# Altium schematic symbol library kmilo17pet-AD_Isolators.SchLib: 645 symbols (part 2 of 36)
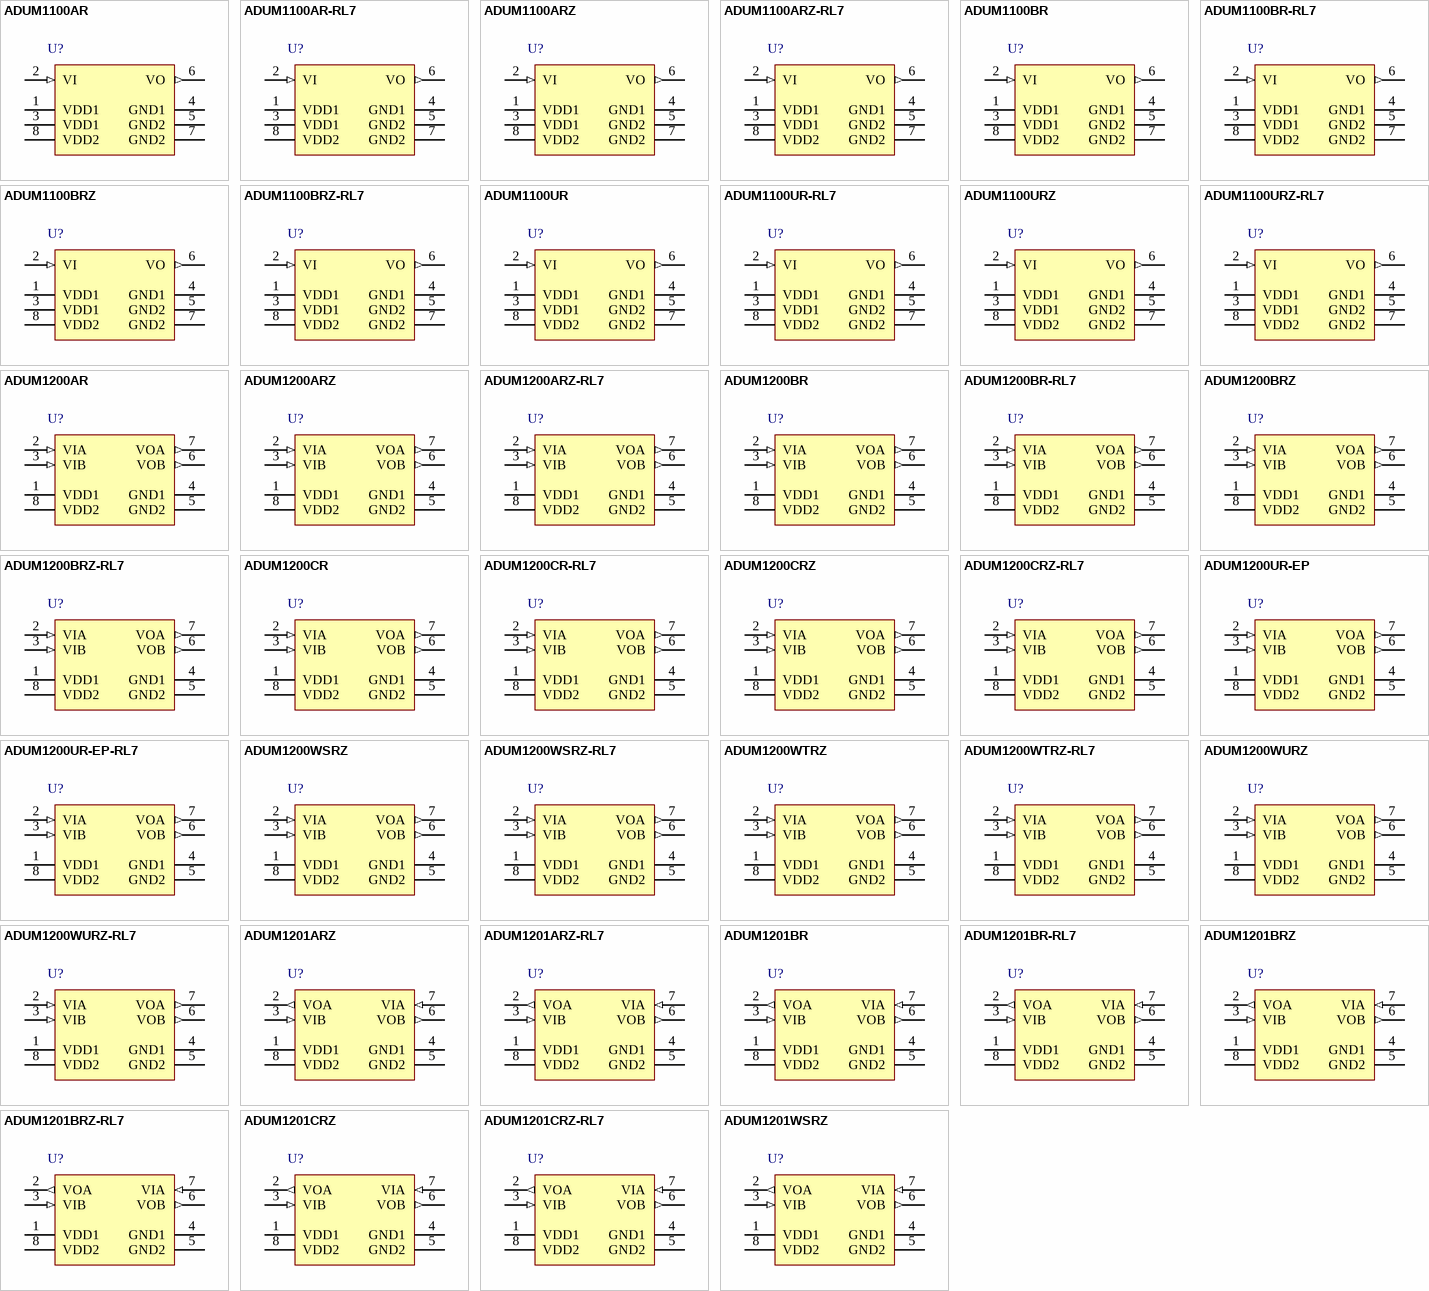
[diagram p21: symbols ADUM1100AR to ADUM1201WSRZ]

## ADUM1200WSRZ-RL7
designator U?
Dual Channel Digital Isolator, 2.5 KV rms Insulation Rating, 1 Mbps Data Rate, 150 ns Delay, Automotive, 8-pin SOIC (R-8), Reel; Manufacturer: Analog Devices; PartNumber: ADUM1200WSRZ-RL7; Automotive Qualified: Yes; Insulation Rating (kVrms): 2.5; Max Data Rate: 1Mbps; DatasheetVersion: Rev. I; PackageVersion: 060506-A, 06/2006; PackageReference: R-8; PackageDescription: 8-Pin Standard Small Outline Package, Body 4.9 x 3.9 mm, Pitch 1.27 mm; Supplier 1: Digi-Key; Supplier Part Number 1: ADUM1200WSRZ-RL7-ND; Max Operating Temp (degreesC): 125; Mounting Technology: Surface Mount; Code_JEDEC: MS-012-AA; ComponentLink1Description: Manufacturer URL; ComponentLink1URL: http://www.analog.com/en/index.html; ComponentLink2Description: Datasheet; ComponentLink2URL: http://www.analog.com/static/imported-files/data_sheets/ADuM1200_1201.pdf; ComponentLink3Description: Package Specification; ComponentLink3URL: http://www.analog.com/static/imported-files/packages/PKG_PDF/SOIC_Narrow%20(R)/R_8.pdf; ComponentLink4Description: URL Link1; ComponentLink4URL: Product URL:http://www.analog.com/en/interface-isolation/digital-isolators/adum1200/products/product.html
footprint ADI-R-8_N (SOIC, 8-Leads, Body 4.9x3.9mm, Pitch 1.27mm, IPC Medium Density)
footprint ADI-R-8_L (SOIC, 8-Leads, Body 4.9x3.9mm, Pitch 1.27mm, IPC High Density)
footprint ADI-R-8_M (SOIC, 8-Leads, Body 4.9x3.9mm, Pitch 1.27mm, IPC Low Density)
pins: 1 VDD1 (power) "Supply Voltage for Isolator Side 1.", 2 VIA (in) "Logic Input A.", 3 VIB (in) "Logic Input B.", 4 GND1 (power) "Ground 1. Ground Reference for Isolator Side 1.", 5 GND2 (power) "Ground 2. Ground Reference for Isolator Side 2.", 6 VOB (out) "Logic Output B.", 7 VOA (out) "Logic Output A.", 8 VDD2 (power) "Supply Voltage for Isolator Side 2."

## ADUM1200WTRZ
designator U?
Dual Channel Digital Isolator, 2.5 KV rms Insulation Rating, 10 Mbps Data Rate, 50 ns Delay, Automotive, 8-pin SOIC (R-8), Tube; Manufacturer: Analog Devices; PartNumber: ADUM1200WTRZ; Automotive Qualified: Yes; Insulation Rating (kVrms): 2.5; Max Data Rate: 10Mbps; DatasheetVersion: Rev. I; PackageVersion: 060506-A, 06/2006; PackageReference: R-8; PackageDescription: 8-Pin Standard Small Outline Package, Body 4.9 x 3.9 mm, Pitch 1.27 mm; Supplier 1: Mouser; Supplier Part Number 1: N/A; Max Operating Temp (degreesC): 125; Mounting Technology: Surface Mount; Code_JEDEC: MS-012-AA; ComponentLink1Description: Manufacturer URL; ComponentLink1URL: http://www.analog.com/en/index.html; ComponentLink2Description: Datasheet; ComponentLink2URL: http://www.analog.com/static/imported-files/data_sheets/ADuM1200_1201.pdf; ComponentLink3Description: Package Specification; ComponentLink3URL: http://www.analog.com/static/imported-files/packages/PKG_PDF/SOIC_Narrow%20(R)/R_8.pdf; ComponentLink4Description: URL Link1; ComponentLink4URL: Product URL:http://www.analog.com/en/interface-isolation/digital-isolators/adum1200/products/product.html
footprint ADI-R-8_N (SOIC, 8-Leads, Body 4.9x3.9mm, Pitch 1.27mm, IPC Medium Density)
footprint ADI-R-8_L (SOIC, 8-Leads, Body 4.9x3.9mm, Pitch 1.27mm, IPC High Density)
footprint ADI-R-8_M (SOIC, 8-Leads, Body 4.9x3.9mm, Pitch 1.27mm, IPC Low Density)
pins: 1 VDD1 (power) "Supply Voltage for Isolator Side 1.", 2 VIA (in) "Logic Input A.", 3 VIB (in) "Logic Input B.", 4 GND1 (power) "Ground 1. Ground Reference for Isolator Side 1.", 5 GND2 (power) "Ground 2. Ground Reference for Isolator Side 2.", 6 VOB (out) "Logic Output B.", 7 VOA (out) "Logic Output A.", 8 VDD2 (power) "Supply Voltage for Isolator Side 2."

## ADUM1200WTRZ-RL7
designator U?
Dual Channel Digital Isolator, 2.5 KV rms Insulation Rating, 10 Mbps Data Rate, 50 ns Delay, Automotive, 8-pin SOIC (R-8), Reel; Manufacturer: Analog Devices; PartNumber: ADUM1200WTRZ-RL7; Automotive Qualified: Yes; Insulation Rating (kVrms): 2.5; Max Data Rate: 10Mbps; DatasheetVersion: Rev. I; PackageVersion: 060506-A, 06/2006; PackageReference: R-8; PackageDescription: 8-Pin Standard Small Outline Package, Body 4.9 x 3.9 mm, Pitch 1.27 mm; Supplier 1: Digi-Key; Supplier Part Number 1: ADUM1200WTRZ-RL7-ND; Max Operating Temp (degreesC): 125; Mounting Technology: Surface Mount; Code_JEDEC: MS-012-AA; ComponentLink1Description: Manufacturer URL; ComponentLink1URL: http://www.analog.com/en/index.html; ComponentLink2Description: Datasheet; ComponentLink2URL: http://www.analog.com/static/imported-files/data_sheets/ADuM1200_1201.pdf; ComponentLink3Description: Package Specification; ComponentLink3URL: http://www.analog.com/static/imported-files/packages/PKG_PDF/SOIC_Narrow%20(R)/R_8.pdf; ComponentLink4Description: URL Link1; ComponentLink4URL: Product URL:http://www.analog.com/en/interface-isolation/digital-isolators/adum1200/products/product.html
footprint ADI-R-8_N (SOIC, 8-Leads, Body 4.9x3.9mm, Pitch 1.27mm, IPC Medium Density)
footprint ADI-R-8_L (SOIC, 8-Leads, Body 4.9x3.9mm, Pitch 1.27mm, IPC High Density)
footprint ADI-R-8_M (SOIC, 8-Leads, Body 4.9x3.9mm, Pitch 1.27mm, IPC Low Density)
pins: 1 VDD1 (power) "Supply Voltage for Isolator Side 1.", 2 VIA (in) "Logic Input A.", 3 VIB (in) "Logic Input B.", 4 GND1 (power) "Ground 1. Ground Reference for Isolator Side 1.", 5 GND2 (power) "Ground 2. Ground Reference for Isolator Side 2.", 6 VOB (out) "Logic Output B.", 7 VOA (out) "Logic Output A.", 8 VDD2 (power) "Supply Voltage for Isolator Side 2."

## ADUM1200WURZ
designator U?
Dual Channel Digital Isolator, 2.5 KV rms Insulation Rating, 25 Mbps Data Rate, 45 ns Delay, Automotive, 8-pin SOIC (R-8), Tube; Manufacturer: Analog Devices; PartNumber: ADUM1200WURZ; Automotive Qualified: Yes; Insulation Rating (kVrms): 2.5; Max Data Rate: 25Mbps; DatasheetVersion: Rev. I; PackageVersion: 060506-A, 06/2006; PackageReference: R-8; PackageDescription: 8-Pin Standard Small Outline Package, Body 4.9 x 3.9 mm, Pitch 1.27 mm; Supplier 1: Digi-Key; Supplier Part Number 1: ADUM1200WURZ-ND; Max Operating Temp (degreesC): 125; Mounting Technology: Surface Mount; Code_JEDEC: MS-012-AA; ComponentLink1Description: Manufacturer URL; ComponentLink1URL: http://www.analog.com/en/index.html; ComponentLink2Description: Datasheet; ComponentLink2URL: http://www.analog.com/static/imported-files/data_sheets/ADuM1200_1201.pdf; ComponentLink3Description: Package Specification; ComponentLink3URL: http://www.analog.com/static/imported-files/packages/PKG_PDF/SOIC_Narrow%20(R)/R_8.pdf; ComponentLink4Description: URL Link1; ComponentLink4URL: Product URL:http://www.analog.com/en/interface-isolation/digital-isolators/adum1200/products/product.html
footprint ADI-R-8_N (SOIC, 8-Leads, Body 4.9x3.9mm, Pitch 1.27mm, IPC Medium Density)
footprint ADI-R-8_L (SOIC, 8-Leads, Body 4.9x3.9mm, Pitch 1.27mm, IPC High Density)
footprint ADI-R-8_M (SOIC, 8-Leads, Body 4.9x3.9mm, Pitch 1.27mm, IPC Low Density)
pins: 1 VDD1 (power) "Supply Voltage for Isolator Side 1.", 2 VIA (in) "Logic Input A.", 3 VIB (in) "Logic Input B.", 4 GND1 (power) "Ground 1. Ground Reference for Isolator Side 1.", 5 GND2 (power) "Ground 2. Ground Reference for Isolator Side 2.", 6 VOB (out) "Logic Output B.", 7 VOA (out) "Logic Output A.", 8 VDD2 (power) "Supply Voltage for Isolator Side 2."

## ADUM1200WURZ-RL7
designator U?
Dual Channel Digital Isolator, 2.5 KV rms Insulation Rating, 25 Mbps Data Rate, 45 ns Delay, Automotive, 8-pin SOIC (R-8), Reel; Manufacturer: Analog Devices; PartNumber: ADUM1200WURZ-RL7; Automotive Qualified: Yes; Insulation Rating (kVrms): 2.5; Max Data Rate: 25Mbps; DatasheetVersion: Rev. I; PackageVersion: 060506-A, 06/2006; PackageReference: R-8; PackageDescription: 8-Pin Standard Small Outline Package, Body 4.9 x 3.9 mm, Pitch 1.27 mm; Supplier 1: Digi-Key; Supplier Part Number 1: ADUM1200WURZ-RL7-ND; Max Operating Temp (degreesC): 125; Mounting Technology: Surface Mount; Code_JEDEC: MS-012-AA; ComponentLink1Description: Manufacturer URL; ComponentLink1URL: http://www.analog.com/en/index.html; ComponentLink2Description: Datasheet; ComponentLink2URL: http://www.analog.com/static/imported-files/data_sheets/ADuM1200_1201.pdf; ComponentLink3Description: Package Specification; ComponentLink3URL: http://www.analog.com/static/imported-files/packages/PKG_PDF/SOIC_Narrow%20(R)/R_8.pdf; ComponentLink4Description: URL Link1; ComponentLink4URL: Product URL:http://www.analog.com/en/interface-isolation/digital-isolators/adum1200/products/product.html
footprint ADI-R-8_N (SOIC, 8-Leads, Body 4.9x3.9mm, Pitch 1.27mm, IPC Medium Density)
footprint ADI-R-8_L (SOIC, 8-Leads, Body 4.9x3.9mm, Pitch 1.27mm, IPC High Density)
footprint ADI-R-8_M (SOIC, 8-Leads, Body 4.9x3.9mm, Pitch 1.27mm, IPC Low Density)
pins: 1 VDD1 (power) "Supply Voltage for Isolator Side 1.", 2 VIA (in) "Logic Input A.", 3 VIB (in) "Logic Input B.", 4 GND1 (power) "Ground 1. Ground Reference for Isolator Side 1.", 5 GND2 (power) "Ground 2. Ground Reference for Isolator Side 2.", 6 VOB (out) "Logic Output B.", 7 VOA (out) "Logic Output A.", 8 VDD2 (power) "Supply Voltage for Isolator Side 2."

## ADUM1201ARZ
designator U?
Dual Channel Digital Isolator, 2.5 KV rms Insulation Rating, 1 Mbps Data Rate, 150 ns Delay, Industrial, 8-pin SOIC (R-8), Tube; Manufacturer: Analog Devices; PartNumber: ADUM1201ARZ; Insulation Rating (kVrms): 2.5; Max Data Rate: 1Mbps; DatasheetVersion: Rev. I; PackageVersion: 060506-A, 06/2006; PackageReference: R-8; PackageDescription: 8-Pin Standard Small Outline Package, Body 4.9 x 3.9 mm, Pitch 1.27 mm; Supplier 1: Digi-Key; Supplier Part Number 1: ADUM1201ARZ-ND; Max Operating Temp (degreesC): 125; Mounting Technology: Surface Mount; Code_JEDEC: MS-012-AA; ComponentLink1Description: Manufacturer URL; ComponentLink1URL: http://www.analog.com/en/index.html; ComponentLink2Description: Datasheet; ComponentLink2URL: http://www.analog.com/static/imported-files/data_sheets/ADuM1200_1201.pdf; ComponentLink3Description: Package Specification; ComponentLink3URL: http://www.analog.com/static/imported-files/packages/PKG_PDF/SOIC_Narrow%20(R)/R_8.pdf; ComponentLink4Description: URL Link1; ComponentLink4URL: Product URL:http://www.analog.com/en/interface-isolation/digital-isolators/adum1201/products/product.html; ComponentLink5Description: URL Link2; ComponentLink5URL: Reference Circuit:http://www.analog.com/en/interface-isolation/digital-isolators/adum1201/products/product.html#product-recommendations
footprint ADI-R-8_N (SOIC, 8-Leads, Body 4.9x3.9mm, Pitch 1.27mm, IPC Medium Density)
footprint ADI-R-8_L (SOIC, 8-Leads, Body 4.9x3.9mm, Pitch 1.27mm, IPC High Density)
footprint ADI-R-8_M (SOIC, 8-Leads, Body 4.9x3.9mm, Pitch 1.27mm, IPC Low Density)
pins: 1 VDD1 (power) "Supply Voltage for Isolator Side 1.", 2 VOA (out) "Logic Output A.", 3 VIB (in) "Logic Input B.", 4 GND1 (power) "Ground 1. Ground Reference for Isolator Side 1.", 5 GND2 (power) "Ground 2. Ground Reference for Isolator Side 2.", 6 VOB (out) "Logic Output B.", 7 VIA (in) "Logic Input A.", 8 VDD2 (power) "Supply Voltage for Isolator Side 2."

## ADUM1201ARZ-RL7
designator U?
Dual Channel Digital Isolator, 2.5 KV rms Insulation Rating, 1 Mbps Data Rate, 150 ns Delay, Industrial, 8-pin SOIC (R-8), Reel; Manufacturer: Analog Devices; PartNumber: ADUM1201ARZ-RL7; Insulation Rating (kVrms): 2.5; Max Data Rate: 1Mbps; DatasheetVersion: Rev. I; PackageVersion: 060506-A, 06/2006; PackageReference: R-8; PackageDescription: 8-Pin Standard Small Outline Package, Body 4.9 x 3.9 mm, Pitch 1.27 mm; Supplier 1: Digi-Key; Supplier Part Number 1: ADUM1201ARZ-RL7TR-ND; Max Operating Temp (degreesC): 125; Mounting Technology: Surface Mount; Code_JEDEC: MS-012-AA; ComponentLink1Description: Manufacturer URL; ComponentLink1URL: http://www.analog.com/en/index.html; ComponentLink2Description: Datasheet; ComponentLink2URL: http://www.analog.com/static/imported-files/data_sheets/ADuM1200_1201.pdf; ComponentLink3Description: Package Specification; ComponentLink3URL: http://www.analog.com/static/imported-files/packages/PKG_PDF/SOIC_Narrow%20(R)/R_8.pdf; ComponentLink4Description: URL Link1; ComponentLink4URL: Product URL:http://www.analog.com/en/interface-isolation/digital-isolators/adum1201/products/product.html; ComponentLink5Description: URL Link2; ComponentLink5URL: Reference Circuit:http://www.analog.com/en/interface-isolation/digital-isolators/adum1201/products/product.html#product-recommendations
footprint ADI-R-8_N (SOIC, 8-Leads, Body 4.9x3.9mm, Pitch 1.27mm, IPC Medium Density)
footprint ADI-R-8_L (SOIC, 8-Leads, Body 4.9x3.9mm, Pitch 1.27mm, IPC High Density)
footprint ADI-R-8_M (SOIC, 8-Leads, Body 4.9x3.9mm, Pitch 1.27mm, IPC Low Density)
pins: 1 VDD1 (power) "Supply Voltage for Isolator Side 1.", 2 VOA (out) "Logic Output A.", 3 VIB (in) "Logic Input B.", 4 GND1 (power) "Ground 1. Ground Reference for Isolator Side 1.", 5 GND2 (power) "Ground 2. Ground Reference for Isolator Side 2.", 6 VOB (out) "Logic Output B.", 7 VIA (in) "Logic Input A.", 8 VDD2 (power) "Supply Voltage for Isolator Side 2."

## ADUM1201BR
designator U?
Dual Channel Digital Isolator, 2.5 KV rms Insulation Rating, 10 Mbps Data Rate, 50 ns Delay, Industrial, 8-pin SOIC (R-8), Tube; Manufacturer: Analog Devices; PartNumber: ADUM1201BR; Insulation Rating (kVrms): 2.5; Max Data Rate: 10Mbps; DatasheetVersion: Rev. I; PackageVersion: 060506-A, 06/2006; PackageReference: R-8; PackageDescription: 8-Pin Standard Small Outline Package, Body 4.9 x 3.9 mm, Pitch 1.27 mm; Supplier 1: Digi-Key; Supplier Part Number 1: ADUM1201BR-ND; Max Operating Temp (degreesC): 125; Mounting Technology: Surface Mount; Code_JEDEC: MS-012-AA; ComponentLink1Description: Manufacturer URL; ComponentLink1URL: http://www.analog.com/en/index.html; ComponentLink2Description: Datasheet; ComponentLink2URL: http://www.analog.com/static/imported-files/data_sheets/ADuM1200_1201.pdf; ComponentLink3Description: Package Specification; ComponentLink3URL: http://www.analog.com/static/imported-files/packages/PKG_PDF/SOIC_Narrow%20(R)/R_8.pdf; ComponentLink4Description: URL Link1; ComponentLink4URL: Product URL:http://www.analog.com/en/interface-isolation/digital-isolators/adum1201/products/product.html; ComponentLink5Description: URL Link2; ComponentLink5URL: Reference Circuit:http://www.analog.com/en/interface-isolation/digital-isolators/adum1201/products/product.html#product-recommendations
footprint ADI-R-8_N (SOIC, 8-Leads, Body 4.9x3.9mm, Pitch 1.27mm, IPC Medium Density)
footprint ADI-R-8_L (SOIC, 8-Leads, Body 4.9x3.9mm, Pitch 1.27mm, IPC High Density)
footprint ADI-R-8_M (SOIC, 8-Leads, Body 4.9x3.9mm, Pitch 1.27mm, IPC Low Density)
pins: 1 VDD1 (power) "Supply Voltage for Isolator Side 1.", 2 VOA (out) "Logic Output A.", 3 VIB (in) "Logic Input B.", 4 GND1 (power) "Ground 1. Ground Reference for Isolator Side 1.", 5 GND2 (power) "Ground 2. Ground Reference for Isolator Side 2.", 6 VOB (out) "Logic Output B.", 7 VIA (in) "Logic Input A.", 8 VDD2 (power) "Supply Voltage for Isolator Side 2."

## ADUM1201BR-RL7
designator U?
Dual Channel Digital Isolator, 2.5 KV rms Insulation Rating, 10 Mbps Data Rate, 50 ns Delay, Industrial, 8-pin SOIC (R-8), Reel; Manufacturer: Analog Devices; PartNumber: ADUM1201BR-RL7; Insulation Rating (kVrms): 2.5; Max Data Rate: 10Mbps; DatasheetVersion: Rev. I; PackageVersion: 060506-A, 06/2006; PackageReference: R-8; PackageDescription: 8-Pin Standard Small Outline Package, Body 4.9 x 3.9 mm, Pitch 1.27 mm; Supplier 1: Digi-Key; Supplier Part Number 1: ADUM1201BR-RL7-ND; Max Operating Temp (degreesC): 125; Mounting Technology: Surface Mount; Code_JEDEC: MS-012-AA; ComponentLink1Description: Manufacturer URL; ComponentLink1URL: http://www.analog.com/en/index.html; ComponentLink2Description: Datasheet; ComponentLink2URL: http://www.analog.com/static/imported-files/data_sheets/ADuM1200_1201.pdf; ComponentLink3Description: Package Specification; ComponentLink3URL: http://www.analog.com/static/imported-files/packages/PKG_PDF/SOIC_Narrow%20(R)/R_8.pdf; ComponentLink4Description: URL Link1; ComponentLink4URL: Product URL:http://www.analog.com/en/interface-isolation/digital-isolators/adum1201/products/product.html; ComponentLink5Description: URL Link2; ComponentLink5URL: Reference Circuit:http://www.analog.com/en/interface-isolation/digital-isolators/adum1201/products/product.html#product-recommendations
footprint ADI-R-8_N (SOIC, 8-Leads, Body 4.9x3.9mm, Pitch 1.27mm, IPC Medium Density)
footprint ADI-R-8_L (SOIC, 8-Leads, Body 4.9x3.9mm, Pitch 1.27mm, IPC High Density)
footprint ADI-R-8_M (SOIC, 8-Leads, Body 4.9x3.9mm, Pitch 1.27mm, IPC Low Density)
pins: 1 VDD1 (power) "Supply Voltage for Isolator Side 1.", 2 VOA (out) "Logic Output A.", 3 VIB (in) "Logic Input B.", 4 GND1 (power) "Ground 1. Ground Reference for Isolator Side 1.", 5 GND2 (power) "Ground 2. Ground Reference for Isolator Side 2.", 6 VOB (out) "Logic Output B.", 7 VIA (in) "Logic Input A.", 8 VDD2 (power) "Supply Voltage for Isolator Side 2."

## ADUM1201BRZ
designator U?
Dual Channel Digital Isolator, 2.5 KV rms Insulation Rating, 10 Mbps Data Rate, 50 ns Delay, Industrial, 8-pin SOIC (R-8), Tube; Manufacturer: Analog Devices; PartNumber: ADUM1201BRZ; Insulation Rating (kVrms): 2.5; Max Data Rate: 10Mbps; DatasheetVersion: Rev. I; PackageVersion: 060506-A, 06/2006; PackageReference: R-8; PackageDescription: 8-Pin Standard Small Outline Package, Body 4.9 x 3.9 mm, Pitch 1.27 mm; Supplier 1: Digi-Key; Supplier Part Number 1: ADUM1201BRZ-ND; Max Operating Temp (degreesC): 125; Mounting Technology: Surface Mount; Code_JEDEC: MS-012-AA; ComponentLink1Description: Manufacturer URL; ComponentLink1URL: http://www.analog.com/en/index.html; ComponentLink2Description: Datasheet; ComponentLink2URL: http://www.analog.com/static/imported-files/data_sheets/ADuM1200_1201.pdf; ComponentLink3Description: Package Specification; ComponentLink3URL: http://www.analog.com/static/imported-files/packages/PKG_PDF/SOIC_Narrow%20(R)/R_8.pdf; ComponentLink4Description: URL Link1; ComponentLink4URL: Product URL:http://www.analog.com/en/interface-isolation/digital-isolators/adum1201/products/product.html; ComponentLink5Description: URL Link2; ComponentLink5URL: Reference Circuit:http://www.analog.com/en/interface-isolation/digital-isolators/adum1201/products/product.html#product-recommendations
footprint ADI-R-8_N (SOIC, 8-Leads, Body 4.9x3.9mm, Pitch 1.27mm, IPC Medium Density)
footprint ADI-R-8_L (SOIC, 8-Leads, Body 4.9x3.9mm, Pitch 1.27mm, IPC High Density)
footprint ADI-R-8_M (SOIC, 8-Leads, Body 4.9x3.9mm, Pitch 1.27mm, IPC Low Density)
pins: 1 VDD1 (power) "Supply Voltage for Isolator Side 1.", 2 VOA (out) "Logic Output A.", 3 VIB (in) "Logic Input B.", 4 GND1 (power) "Ground 1. Ground Reference for Isolator Side 1.", 5 GND2 (power) "Ground 2. Ground Reference for Isolator Side 2.", 6 VOB (out) "Logic Output B.", 7 VIA (in) "Logic Input A.", 8 VDD2 (power) "Supply Voltage for Isolator Side 2."

## ADUM1201BRZ-RL7
designator U?
Dual Channel Digital Isolator, 2.5 KV rms Insulation Rating, 10 Mbps Data Rate, 50 ns Delay, Industrial, 8-pin SOIC (R-8), Reel; Manufacturer: Analog Devices; PartNumber: ADUM1201BRZ-RL7; Insulation Rating (kVrms): 2.5; Max Data Rate: 10Mbps; DatasheetVersion: Rev. I; PackageVersion: 060506-A, 06/2006; PackageReference: R-8; PackageDescription: 8-Pin Standard Small Outline Package, Body 4.9 x 3.9 mm, Pitch 1.27 mm; Supplier 1: Digi-Key; Supplier Part Number 1: ADUM1201BRZ-RL7TR-ND; Max Operating Temp (degreesC): 125; Mounting Technology: Surface Mount; Code_JEDEC: MS-012-AA; ComponentLink1Description: Manufacturer URL; ComponentLink1URL: http://www.analog.com/en/index.html; ComponentLink2Description: Datasheet; ComponentLink2URL: http://www.analog.com/static/imported-files/data_sheets/ADuM1200_1201.pdf; ComponentLink3Description: Package Specification; ComponentLink3URL: http://www.analog.com/static/imported-files/packages/PKG_PDF/SOIC_Narrow%20(R)/R_8.pdf; ComponentLink4Description: URL Link1; ComponentLink4URL: Product URL:http://www.analog.com/en/interface-isolation/digital-isolators/adum1201/products/product.html; ComponentLink5Description: URL Link2; ComponentLink5URL: Reference Circuit:http://www.analog.com/en/interface-isolation/digital-isolators/adum1201/products/product.html#product-recommendations
footprint ADI-R-8_N (SOIC, 8-Leads, Body 4.9x3.9mm, Pitch 1.27mm, IPC Medium Density)
footprint ADI-R-8_L (SOIC, 8-Leads, Body 4.9x3.9mm, Pitch 1.27mm, IPC High Density)
footprint ADI-R-8_M (SOIC, 8-Leads, Body 4.9x3.9mm, Pitch 1.27mm, IPC Low Density)
pins: 1 VDD1 (power) "Supply Voltage for Isolator Side 1.", 2 VOA (out) "Logic Output A.", 3 VIB (in) "Logic Input B.", 4 GND1 (power) "Ground 1. Ground Reference for Isolator Side 1.", 5 GND2 (power) "Ground 2. Ground Reference for Isolator Side 2.", 6 VOB (out) "Logic Output B.", 7 VIA (in) "Logic Input A.", 8 VDD2 (power) "Supply Voltage for Isolator Side 2."

## ADUM1201CRZ
designator U?
Dual Channel Digital Isolator, 2.5 KV rms Insulation Rating, 25 Mbps Data Rate, 45 ns Delay, Industrial, 8-pin SOIC (R-8), Tube; Manufacturer: Analog Devices; PartNumber: ADUM1201CRZ; Insulation Rating (kVrms): 2.5; Max Data Rate: 25Mbps; DatasheetVersion: Rev. I; PackageVersion: 060506-A, 06/2006; PackageReference: R-8; PackageDescription: 8-Pin Standard Small Outline Package, Body 4.9 x 3.9 mm, Pitch 1.27 mm; Supplier 1: Digi-Key; Supplier Part Number 1: ADUM1201CRZ-ND; Max Operating Temp (degreesC): 125; Mounting Technology: Surface Mount; Code_JEDEC: MS-012-AA; ComponentLink1Description: Manufacturer URL; ComponentLink1URL: http://www.analog.com/en/index.html; ComponentLink2Description: Datasheet; ComponentLink2URL: http://www.analog.com/static/imported-files/data_sheets/ADuM1200_1201.pdf; ComponentLink3Description: Package Specification; ComponentLink3URL: http://www.analog.com/static/imported-files/packages/PKG_PDF/SOIC_Narrow%20(R)/R_8.pdf; ComponentLink4Description: URL Link1; ComponentLink4URL: Product URL:http://www.analog.com/en/interface-isolation/digital-isolators/adum1201/products/product.html; ComponentLink5Description: URL Link2; ComponentLink5URL: Reference Circuit:http://www.analog.com/en/interface-isolation/digital-isolators/adum1201/products/product.html#product-recommendations
footprint ADI-R-8_N (SOIC, 8-Leads, Body 4.9x3.9mm, Pitch 1.27mm, IPC Medium Density)
footprint ADI-R-8_L (SOIC, 8-Leads, Body 4.9x3.9mm, Pitch 1.27mm, IPC High Density)
footprint ADI-R-8_M (SOIC, 8-Leads, Body 4.9x3.9mm, Pitch 1.27mm, IPC Low Density)
pins: 1 VDD1 (power) "Supply Voltage for Isolator Side 1.", 2 VOA (out) "Logic Output A.", 3 VIB (in) "Logic Input B.", 4 GND1 (power) "Ground 1. Ground Reference for Isolator Side 1.", 5 GND2 (power) "Ground 2. Ground Reference for Isolator Side 2.", 6 VOB (out) "Logic Output B.", 7 VIA (in) "Logic Input A.", 8 VDD2 (power) "Supply Voltage for Isolator Side 2."

## ADUM1201CRZ-RL7
designator U?
Dual Channel Digital Isolator, 2.5 KV rms Insulation Rating, 25 Mbps Data Rate, 45 ns Delay, Industrial, 8-pin SOIC (R-8), Reel; Manufacturer: Analog Devices; PartNumber: ADUM1201CRZ-RL7; Insulation Rating (kVrms): 2.5; Max Data Rate: 25Mbps; DatasheetVersion: Rev. I; PackageVersion: 060506-A, 06/2006; PackageReference: R-8; PackageDescription: 8-Pin Standard Small Outline Package, Body 4.9 x 3.9 mm, Pitch 1.27 mm; Supplier 1: Digi-Key; Supplier Part Number 1: ADUM1201CRZ-RL7TR-ND; Max Operating Temp (degreesC): 125; Mounting Technology: Surface Mount; Code_JEDEC: MS-012-AA; ComponentLink1Description: Manufacturer URL; ComponentLink1URL: http://www.analog.com/en/index.html; ComponentLink2Description: Datasheet; ComponentLink2URL: http://www.analog.com/static/imported-files/data_sheets/ADuM1200_1201.pdf; ComponentLink3Description: Package Specification; ComponentLink3URL: http://www.analog.com/static/imported-files/packages/PKG_PDF/SOIC_Narrow%20(R)/R_8.pdf; ComponentLink4Description: URL Link1; ComponentLink4URL: Product URL:http://www.analog.com/en/interface-isolation/digital-isolators/adum1201/products/product.html; ComponentLink5Description: URL Link2; ComponentLink5URL: Reference Circuit:http://www.analog.com/en/interface-isolation/digital-isolators/adum1201/products/product.html#product-recommendations
footprint ADI-R-8_N (SOIC, 8-Leads, Body 4.9x3.9mm, Pitch 1.27mm, IPC Medium Density)
footprint ADI-R-8_L (SOIC, 8-Leads, Body 4.9x3.9mm, Pitch 1.27mm, IPC High Density)
footprint ADI-R-8_M (SOIC, 8-Leads, Body 4.9x3.9mm, Pitch 1.27mm, IPC Low Density)
pins: 1 VDD1 (power) "Supply Voltage for Isolator Side 1.", 2 VOA (out) "Logic Output A.", 3 VIB (in) "Logic Input B.", 4 GND1 (power) "Ground 1. Ground Reference for Isolator Side 1.", 5 GND2 (power) "Ground 2. Ground Reference for Isolator Side 2.", 6 VOB (out) "Logic Output B.", 7 VIA (in) "Logic Input A.", 8 VDD2 (power) "Supply Voltage for Isolator Side 2."

## ADUM1201WSRZ
designator U?
Dual Channel Digital Isolator, 2.5 KV rms Insulation Rating, 1 Mbps Data Rate, 150 ns Delay, Automotive, 8-pin SOIC (R-8), Tube; Manufacturer: Analog Devices; PartNumber: ADUM1201WSRZ; Automotive Qualified: Yes; Insulation Rating (kVrms): 2.5; Max Data Rate: 1Mbps; DatasheetVersion: Rev. I; PackageVersion: 060506-A, 06/2006; PackageReference: R-8; PackageDescription: 8-Pin Standard Small Outline Package, Body 4.9 x 3.9 mm, Pitch 1.27 mm; Supplier 1: Digi-Key; Supplier Part Number 1: ADUM1201WSRZ-ND; Max Operating Temp (degreesC): 125; Mounting Technology: Surface Mount; Code_JEDEC: MS-012-AA; ComponentLink1Description: Manufacturer URL; ComponentLink1URL: http://www.analog.com/en/index.html; ComponentLink2Description: Datasheet; ComponentLink2URL: http://www.analog.com/static/imported-files/data_sheets/ADuM1200_1201.pdf; ComponentLink3Description: Package Specification; ComponentLink3URL: http://www.analog.com/static/imported-files/packages/PKG_PDF/SOIC_Narrow%20(R)/R_8.pdf; ComponentLink4Description: URL Link1; ComponentLink4URL: Product URL:http://www.analog.com/en/interface-isolation/digital-isolators/adum1201/products/product.html; ComponentLink5Description: URL Link2; ComponentLink5URL: Reference Circuit:http://www.analog.com/en/interface-isolation/digital-isolators/adum1201/products/product.html#product-recommendations
footprint ADI-R-8_N (SOIC, 8-Leads, Body 4.9x3.9mm, Pitch 1.27mm, IPC Medium Density)
footprint ADI-R-8_L (SOIC, 8-Leads, Body 4.9x3.9mm, Pitch 1.27mm, IPC High Density)
footprint ADI-R-8_M (SOIC, 8-Leads, Body 4.9x3.9mm, Pitch 1.27mm, IPC Low Density)
pins: 1 VDD1 (power) "Supply Voltage for Isolator Side 1.", 2 VOA (out) "Logic Output A.", 3 VIB (in) "Logic Input B.", 4 GND1 (power) "Ground 1. Ground Reference for Isolator Side 1.", 5 GND2 (power) "Ground 2. Ground Reference for Isolator Side 2.", 6 VOB (out) "Logic Output B.", 7 VIA (in) "Logic Input A.", 8 VDD2 (power) "Supply Voltage for Isolator Side 2."

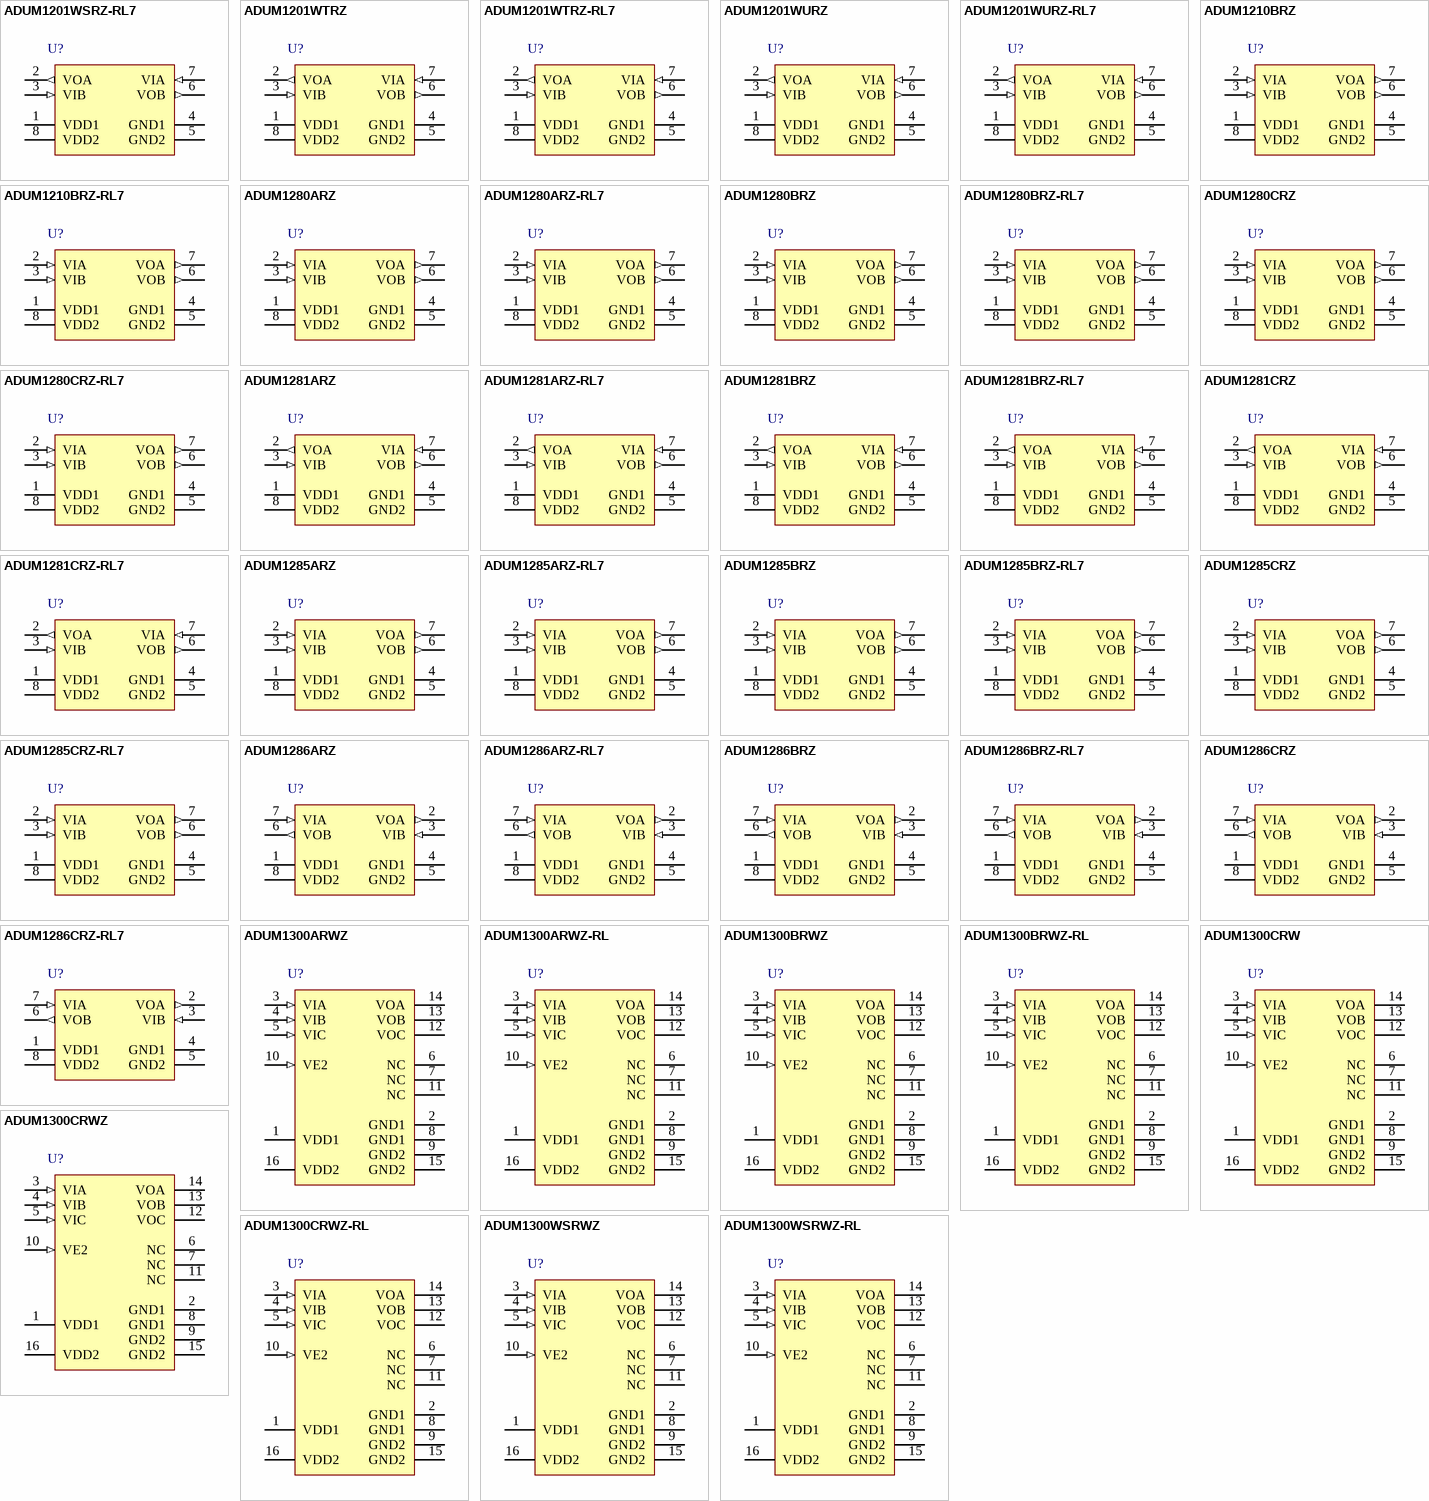
[diagram p1: symbols ADUM1201WSRZ-RL7 to ADUM1300WSRWZ-RL]

## ADUM1201WSRZ-RL7
designator U?
Dual Channel Digital Isolator, 2.5 KV rms Insulation Rating, 1 Mbps Data Rate, 150 ns Delay, Automotive, 8-pin SOIC (R-8), Reel; Manufacturer: Analog Devices; PartNumber: ADUM1201WSRZ-RL7; Automotive Qualified: Yes; Insulation Rating (kVrms): 2.5; Max Data Rate: 1Mbps; DatasheetVersion: Rev. I; PackageVersion: 060506-A, 06/2006; PackageReference: R-8; PackageDescription: 8-Pin Standard Small Outline Package, Body 4.9 x 3.9 mm, Pitch 1.27 mm; Supplier 1: Digi-Key; Supplier Part Number 1: ADUM1201WSRZ-RL7CT-ND; Max Operating Temp (degreesC): 125; Mounting Technology: Surface Mount; Code_JEDEC: MS-012-AA; ComponentLink1Description: Manufacturer URL; ComponentLink1URL: http://www.analog.com/en/index.html; ComponentLink2Description: Datasheet; ComponentLink2URL: http://www.analog.com/static/imported-files/data_sheets/ADuM1200_1201.pdf; ComponentLink3Description: Package Specification; ComponentLink3URL: http://www.analog.com/static/imported-files/packages/PKG_PDF/SOIC_Narrow%20(R)/R_8.pdf; ComponentLink4Description: URL Link1; ComponentLink4URL: Product URL:http://www.analog.com/en/interface-isolation/digital-isolators/adum1201/products/product.html; ComponentLink5Description: URL Link2; ComponentLink5URL: Reference Circuit:http://www.analog.com/en/interface-isolation/digital-isolators/adum1201/products/product.html#product-recommendations
footprint ADI-R-8_N (SOIC, 8-Leads, Body 4.9x3.9mm, Pitch 1.27mm, IPC Medium Density)
footprint ADI-R-8_L (SOIC, 8-Leads, Body 4.9x3.9mm, Pitch 1.27mm, IPC High Density)
footprint ADI-R-8_M (SOIC, 8-Leads, Body 4.9x3.9mm, Pitch 1.27mm, IPC Low Density)
pins: 1 VDD1 (power) "Supply Voltage for Isolator Side 1.", 2 VOA (out) "Logic Output A.", 3 VIB (in) "Logic Input B.", 4 GND1 (power) "Ground 1. Ground Reference for Isolator Side 1.", 5 GND2 (power) "Ground 2. Ground Reference for Isolator Side 2.", 6 VOB (out) "Logic Output B.", 7 VIA (in) "Logic Input A.", 8 VDD2 (power) "Supply Voltage for Isolator Side 2."

## ADUM1201WTRZ
designator U?
Dual Channel Digital Isolator, 2.5 KV rms Insulation Rating, 10 Mbps Data Rate, 50 ns Delay, Automotive, 8-pin SOIC (R-8), Tube; Manufacturer: Analog Devices; PartNumber: ADUM1201WTRZ; Automotive Qualified: Yes; Insulation Rating (kVrms): 2.5; Max Data Rate: 10Mbps; DatasheetVersion: Rev. I; PackageVersion: 060506-A, 06/2006; PackageReference: R-8; PackageDescription: 8-Pin Standard Small Outline Package, Body 4.9 x 3.9 mm, Pitch 1.27 mm; Supplier 1: Mouser; Supplier Part Number 1: N/A; Max Operating Temp (degreesC): 125; Mounting Technology: Surface Mount; Code_JEDEC: MS-012-AA; ComponentLink1Description: Manufacturer URL; ComponentLink1URL: http://www.analog.com/en/index.html; ComponentLink2Description: Datasheet; ComponentLink2URL: http://www.analog.com/static/imported-files/data_sheets/ADuM1200_1201.pdf; ComponentLink3Description: Package Specification; ComponentLink3URL: http://www.analog.com/static/imported-files/packages/PKG_PDF/SOIC_Narrow%20(R)/R_8.pdf; ComponentLink4Description: URL Link1; ComponentLink4URL: Product URL:http://www.analog.com/en/interface-isolation/digital-isolators/adum1201/products/product.html; ComponentLink5Description: URL Link2; ComponentLink5URL: Reference Circuit:http://www.analog.com/en/interface-isolation/digital-isolators/adum1201/products/product.html#product-recommendations
footprint ADI-R-8_N (SOIC, 8-Leads, Body 4.9x3.9mm, Pitch 1.27mm, IPC Medium Density)
footprint ADI-R-8_L (SOIC, 8-Leads, Body 4.9x3.9mm, Pitch 1.27mm, IPC High Density)
footprint ADI-R-8_M (SOIC, 8-Leads, Body 4.9x3.9mm, Pitch 1.27mm, IPC Low Density)
pins: 1 VDD1 (power) "Supply Voltage for Isolator Side 1.", 2 VOA (out) "Logic Output A.", 3 VIB (in) "Logic Input B.", 4 GND1 (power) "Ground 1. Ground Reference for Isolator Side 1.", 5 GND2 (power) "Ground 2. Ground Reference for Isolator Side 2.", 6 VOB (out) "Logic Output B.", 7 VIA (in) "Logic Input A.", 8 VDD2 (power) "Supply Voltage for Isolator Side 2."

## ADUM1201WTRZ-RL7
designator U?
Dual Channel Digital Isolator, 2.5 KV rms Insulation Rating, 10 Mbps Data Rate, 50 ns Delay, Automotive, 8-pin SOIC (R-8), Reel; Manufacturer: Analog Devices; PartNumber: ADUM1201WTRZ-RL7; Automotive Qualified: Yes; Insulation Rating (kVrms): 2.5; Max Data Rate: 10Mbps; DatasheetVersion: Rev. I; PackageVersion: 060506-A, 06/2006; PackageReference: R-8; PackageDescription: 8-Pin Standard Small Outline Package, Body 4.9 x 3.9 mm, Pitch 1.27 mm; Supplier 1: Digi-Key; Supplier Part Number 1: ADUM1201WTRZ-RL7-ND; Max Operating Temp (degreesC): 125; Mounting Technology: Surface Mount; Code_JEDEC: MS-012-AA; ComponentLink1Description: Manufacturer URL; ComponentLink1URL: http://www.analog.com/en/index.html; ComponentLink2Description: Datasheet; ComponentLink2URL: http://www.analog.com/static/imported-files/data_sheets/ADuM1200_1201.pdf; ComponentLink3Description: Package Specification; ComponentLink3URL: http://www.analog.com/static/imported-files/packages/PKG_PDF/SOIC_Narrow%20(R)/R_8.pdf; ComponentLink4Description: URL Link1; ComponentLink4URL: Product URL:http://www.analog.com/en/interface-isolation/digital-isolators/adum1201/products/product.html; ComponentLink5Description: URL Link2; ComponentLink5URL: Reference Circuit:http://www.analog.com/en/interface-isolation/digital-isolators/adum1201/products/product.html#product-recommendations
footprint ADI-R-8_N (SOIC, 8-Leads, Body 4.9x3.9mm, Pitch 1.27mm, IPC Medium Density)
footprint ADI-R-8_L (SOIC, 8-Leads, Body 4.9x3.9mm, Pitch 1.27mm, IPC High Density)
footprint ADI-R-8_M (SOIC, 8-Leads, Body 4.9x3.9mm, Pitch 1.27mm, IPC Low Density)
pins: 1 VDD1 (power) "Supply Voltage for Isolator Side 1.", 2 VOA (out) "Logic Output A.", 3 VIB (in) "Logic Input B.", 4 GND1 (power) "Ground 1. Ground Reference for Isolator Side 1.", 5 GND2 (power) "Ground 2. Ground Reference for Isolator Side 2.", 6 VOB (out) "Logic Output B.", 7 VIA (in) "Logic Input A.", 8 VDD2 (power) "Supply Voltage for Isolator Side 2."

## ADUM1201WURZ
designator U?
Dual Channel Digital Isolator, 2.5 KV rms Insulation Rating, 25 Mbps Data Rate, 45 ns Delay, Automotive, 8-pin SOIC (R-8), Tube; Manufacturer: Analog Devices; PartNumber: ADUM1201WURZ; Automotive Qualified: Yes; Insulation Rating (kVrms): 2.5; Max Data Rate: 25Mbps; DatasheetVersion: Rev. I; PackageVersion: 060506-A, 06/2006; PackageReference: R-8; PackageDescription: 8-Pin Standard Small Outline Package, Body 4.9 x 3.9 mm, Pitch 1.27 mm; Supplier 1: Digi-Key; Supplier Part Number 1: ADUM1201WURZ-ND; Max Operating Temp (degreesC): 125; Mounting Technology: Surface Mount; Code_JEDEC: MS-012-AA; ComponentLink1Description: Manufacturer URL; ComponentLink1URL: http://www.analog.com/en/index.html; ComponentLink2Description: Datasheet; ComponentLink2URL: http://www.analog.com/static/imported-files/data_sheets/ADuM1200_1201.pdf; ComponentLink3Description: Package Specification; ComponentLink3URL: http://www.analog.com/static/imported-files/packages/PKG_PDF/SOIC_Narrow%20(R)/R_8.pdf; ComponentLink4Description: URL Link1; ComponentLink4URL: Product URL:http://www.analog.com/en/interface-isolation/digital-isolators/adum1201/products/product.html; ComponentLink5Description: URL Link2; ComponentLink5URL: Reference Circuit:http://www.analog.com/en/interface-isolation/digital-isolators/adum1201/products/product.html#product-recommendations
footprint ADI-R-8_N (SOIC, 8-Leads, Body 4.9x3.9mm, Pitch 1.27mm, IPC Medium Density)
footprint ADI-R-8_L (SOIC, 8-Leads, Body 4.9x3.9mm, Pitch 1.27mm, IPC High Density)
footprint ADI-R-8_M (SOIC, 8-Leads, Body 4.9x3.9mm, Pitch 1.27mm, IPC Low Density)
pins: 1 VDD1 (power) "Supply Voltage for Isolator Side 1.", 2 VOA (out) "Logic Output A.", 3 VIB (in) "Logic Input B.", 4 GND1 (power) "Ground 1. Ground Reference for Isolator Side 1.", 5 GND2 (power) "Ground 2. Ground Reference for Isolator Side 2.", 6 VOB (out) "Logic Output B.", 7 VIA (in) "Logic Input A.", 8 VDD2 (power) "Supply Voltage for Isolator Side 2."

## ADUM1201WURZ-RL7
designator U?
Dual Channel Digital Isolator, 2.5 KV rms Insulation Rating, 25 Mbps Data Rate, 45 ns Delay, Automotive, 8-pin SOIC (R-8), Reel; Manufacturer: Analog Devices; PartNumber: ADUM1201WURZ-RL7; Automotive Qualified: Yes; Insulation Rating (kVrms): 2.5; Max Data Rate: 25Mbps; DatasheetVersion: Rev. I; PackageVersion: 060506-A, 06/2006; PackageReference: R-8; PackageDescription: 8-Pin Standard Small Outline Package, Body 4.9 x 3.9 mm, Pitch 1.27 mm; Supplier 1: Digi-Key; Supplier Part Number 1: ADUM1201WURZ-RL7-ND; Max Operating Temp (degreesC): 125; Mounting Technology: Surface Mount; Code_JEDEC: MS-012-AA; ComponentLink1Description: Manufacturer URL; ComponentLink1URL: http://www.analog.com/en/index.html; ComponentLink2Description: Datasheet; ComponentLink2URL: http://www.analog.com/static/imported-files/data_sheets/ADuM1200_1201.pdf; ComponentLink3Description: Package Specification; ComponentLink3URL: http://www.analog.com/static/imported-files/packages/PKG_PDF/SOIC_Narrow%20(R)/R_8.pdf; ComponentLink4Description: URL Link1; ComponentLink4URL: Product URL:http://www.analog.com/en/interface-isolation/digital-isolators/adum1201/products/product.html; ComponentLink5Description: URL Link2; ComponentLink5URL: Reference Circuit:http://www.analog.com/en/interface-isolation/digital-isolators/adum1201/products/product.html#product-recommendations
footprint ADI-R-8_N (SOIC, 8-Leads, Body 4.9x3.9mm, Pitch 1.27mm, IPC Medium Density)
footprint ADI-R-8_L (SOIC, 8-Leads, Body 4.9x3.9mm, Pitch 1.27mm, IPC High Density)
footprint ADI-R-8_M (SOIC, 8-Leads, Body 4.9x3.9mm, Pitch 1.27mm, IPC Low Density)
pins: 1 VDD1 (power) "Supply Voltage for Isolator Side 1.", 2 VOA (out) "Logic Output A.", 3 VIB (in) "Logic Input B.", 4 GND1 (power) "Ground 1. Ground Reference for Isolator Side 1.", 5 GND2 (power) "Ground 2. Ground Reference for Isolator Side 2.", 6 VOB (out) "Logic Output B.", 7 VIA (in) "Logic Input A.", 8 VDD2 (power) "Supply Voltage for Isolator Side 2."

## ADUM1210BRZ
designator U?
Dual Channel Digital Isolator, 2.5 KV rms Insulation Rating, 10 Mbps Data Rate, 50 ns Delay, Industrial, 8-pin SOIC (R-8), Tube; Manufacturer: Analog Devices; PartNumber: ADUM1210BRZ; Insulation Rating (kVrms): 2.5; Max Data Rate: 10Mbps; DatasheetVersion: Rev. D; PackageVersion: 060506-A, 06/2006; PackageReference: R-8; PackageDescription: 8-Pin Standard Small Outline Package, Body 4.9 x 3.9 mm, Pitch 1.27 mm; Supplier 1: Digi-Key; Supplier Part Number 1: ADUM1210BRZ-ND; Max Operating Temp (degreesC): 105; Mounting Technology: Surface Mount; Code_JEDEC: MS-012-AA; ComponentLink1Description: Manufacturer URL; ComponentLink1URL: http://www.analog.com/en/index.html; ComponentLink2Description: Datasheet; ComponentLink2URL: http://www.analog.com/static/imported-files/data_sheets/ADUM1210.pdf; ComponentLink3Description: Package Specification; ComponentLink3URL: http://www.analog.com/static/imported-files/packages/PKG_PDF/SOIC_Narrow%20(R)/R_8.pdf; ComponentLink4Description: URL Link1; ComponentLink4URL: Product URL:http://www.analog.com/en/interface-isolation/digital-isolators/adum1210/products/product.html
footprint ADI-R-8_N (SOIC, 8-Leads, Body 4.9x3.9mm, Pitch 1.27mm, IPC Medium Density)
footprint ADI-R-8_L (SOIC, 8-Leads, Body 4.9x3.9mm, Pitch 1.27mm, IPC High Density)
footprint ADI-R-8_M (SOIC, 8-Leads, Body 4.9x3.9mm, Pitch 1.27mm, IPC Low Density)
pins: 1 VDD1 (power) "Supply Voltage for Isolator Side 1.", 2 VIA (in) "Logic Input A.", 3 VIB (in) "Logic Input B.", 4 GND1 (power) "Ground 1. Ground Reference for Isolator Side 1.", 5 GND2 (power) "Ground 2. Ground Reference for Isolator Side 2.", 6 VOB (out) "Logic Output B.", 7 VOA (out) "Logic Output A.", 8 VDD2 (power) "Supply Voltage for Isolator Side 2."

## ADUM1210BRZ-RL7
designator U?
Dual Channel Digital Isolator, 2.5 KV rms Insulation Rating, 10 Mbps Data Rate, 50 ns Delay, Industrial, 8-pin SOIC (R-8), Reel; Manufacturer: Analog Devices; PartNumber: ADUM1210BRZ-RL7; Insulation Rating (kVrms): 2.5; Max Data Rate: 10Mbps; DatasheetVersion: Rev. D; PackageVersion: 060506-A, 06/2006; PackageReference: R-8; PackageDescription: 8-Pin Standard Small Outline Package, Body 4.9 x 3.9 mm, Pitch 1.27 mm; Supplier 1: Digi-Key; Supplier Part Number 1: ADUM1210BRZ-RL7TR-ND; Max Operating Temp (degreesC): 105; Mounting Technology: Surface Mount; Code_JEDEC: MS-012-AA; ComponentLink1Description: Manufacturer URL; ComponentLink1URL: http://www.analog.com/en/index.html; ComponentLink2Description: Datasheet; ComponentLink2URL: http://www.analog.com/static/imported-files/data_sheets/ADUM1210.pdf; ComponentLink3Description: Package Specification; ComponentLink3URL: http://www.analog.com/static/imported-files/packages/PKG_PDF/SOIC_Narrow%20(R)/R_8.pdf; ComponentLink4Description: URL Link1; ComponentLink4URL: Product URL:http://www.analog.com/en/interface-isolation/digital-isolators/adum1210/products/product.html
footprint ADI-R-8_N (SOIC, 8-Leads, Body 4.9x3.9mm, Pitch 1.27mm, IPC Medium Density)
footprint ADI-R-8_L (SOIC, 8-Leads, Body 4.9x3.9mm, Pitch 1.27mm, IPC High Density)
footprint ADI-R-8_M (SOIC, 8-Leads, Body 4.9x3.9mm, Pitch 1.27mm, IPC Low Density)
pins: 1 VDD1 (power) "Supply Voltage for Isolator Side 1.", 2 VIA (in) "Logic Input A.", 3 VIB (in) "Logic Input B.", 4 GND1 (power) "Ground 1. Ground Reference for Isolator Side 1.", 5 GND2 (power) "Ground 2. Ground Reference for Isolator Side 2.", 6 VOB (out) "Logic Output B.", 7 VOA (out) "Logic Output A.", 8 VDD2 (power) "Supply Voltage for Isolator Side 2."

## ADUM1280ARZ
designator U?
Dual Channel Default High Digital Isolator, 3 KV rms Insulation Rating, 1 Mbps Data Rate, 50 ns Delay, Industrial, 8-pin SOIC (R-8), Tube; Manufacturer: Analog Devices; PartNumber: ADUM1280ARZ; Insulation Rating (kVrms): 3; Max Data Rate: 1Mbps; DatasheetVersion: Rev. 0; PackageVersion: 060506-A, 06/2006; PackageReference: R-8; PackageDescription: 8-Pin Standard Small Outline Package, Body 4.9 x 3.9 mm, Pitch 1.27 mm; Supplier 1: Digi-Key; Supplier Part Number 1: ADUM1280ARZ-ND; Max Operating Temp (degreesC): 125; Mounting Technology: Surface Mount; Code_JEDEC: MS-012-AA; ComponentLink1Description: Manufacturer URL; ComponentLink1URL: http://www.analog.com/en/index.html; ComponentLink2Description: Datasheet; ComponentLink2URL: http://www.analog.com/static/imported-files/data_sheets/ADuM1280_1281_1285_1286.pdf; ComponentLink3Description: Package Specification; ComponentLink3URL: http://www.analog.com/static/imported-files/packages/PKG_PDF/SOIC_Narrow%20(R)/R_8.pdf; ComponentLink4Description: URL Link1; ComponentLink4URL: Product URL:http://www.analog.com/en/interface-isolation/digital-isolators/adum1280/products/product.html
footprint ADI-R-8_N (SOIC, 8-Leads, Body 4.9x3.9mm, Pitch 1.27mm, IPC Medium Density)
footprint ADI-R-8_L (SOIC, 8-Leads, Body 4.9x3.9mm, Pitch 1.27mm, IPC High Density)
footprint ADI-R-8_M (SOIC, 8-Leads, Body 4.9x3.9mm, Pitch 1.27mm, IPC Low Density)
pins: 1 VDD1 (power) "Supply Voltage for Isolator Side 1.", 2 VIA (in) "Logic Input A.", 3 VIB (in) "Logic Input B.", 4 GND1 (power) "Ground 1. Ground Reference for Isolator Side 1.", 5 GND2 (power) "Ground 2. Ground Reference for Isolator Side 2.", 6 VOB (out) "Logic Output B.", 7 VOA (out) "Logic Output A.", 8 VDD2 (power) "Supply Voltage for Isolator Side 2."

## ADUM1280ARZ-RL7
designator U?
Dual Channel Default High Digital Isolator, 3 KV rms Insulation Rating, 1 Mbps Data Rate, 50 ns Delay, Industrial, 8-pin SOIC (R-8), Reel; Manufacturer: Analog Devices; PartNumber: ADUM1280ARZ-RL7; Insulation Rating (kVrms): 3; Max Data Rate: 1Mbps; DatasheetVersion: Rev. 0; PackageVersion: 060506-A, 06/2006; PackageReference: R-8; PackageDescription: 8-Pin Standard Small Outline Package, Body 4.9 x 3.9 mm, Pitch 1.27 mm; Supplier 1: Digi-Key; Supplier Part Number 1: ADUM1280ARZ-RL7-ND; Max Operating Temp (degreesC): 125; Mounting Technology: Surface Mount; Code_JEDEC: MS-012-AA; ComponentLink1Description: Manufacturer URL; ComponentLink1URL: http://www.analog.com/en/index.html; ComponentLink2Description: Datasheet; ComponentLink2URL: http://www.analog.com/static/imported-files/data_sheets/ADuM1280_1281_1285_1286.pdf; ComponentLink3Description: Package Specification; ComponentLink3URL: http://www.analog.com/static/imported-files/packages/PKG_PDF/SOIC_Narrow%20(R)/R_8.pdf; ComponentLink4Description: URL Link1; ComponentLink4URL: Product URL:http://www.analog.com/en/interface-isolation/digital-isolators/adum1280/products/product.html
footprint ADI-R-8_N (SOIC, 8-Leads, Body 4.9x3.9mm, Pitch 1.27mm, IPC Medium Density)
footprint ADI-R-8_L (SOIC, 8-Leads, Body 4.9x3.9mm, Pitch 1.27mm, IPC High Density)
footprint ADI-R-8_M (SOIC, 8-Leads, Body 4.9x3.9mm, Pitch 1.27mm, IPC Low Density)
pins: 1 VDD1 (power) "Supply Voltage for Isolator Side 1.", 2 VIA (in) "Logic Input A.", 3 VIB (in) "Logic Input B.", 4 GND1 (power) "Ground 1. Ground Reference for Isolator Side 1.", 5 GND2 (power) "Ground 2. Ground Reference for Isolator Side 2.", 6 VOB (out) "Logic Output B.", 7 VOA (out) "Logic Output A.", 8 VDD2 (power) "Supply Voltage for Isolator Side 2."

## ADUM1280BRZ
designator U?
Dual Channel Default High Digital Isolator, 3 KV rms Insulation Rating, 25 Mbps Data Rate, 35 ns Delay, Industrial, 8-pin SOIC (R-8), Tube; Manufacturer: Analog Devices; PartNumber: ADUM1280BRZ; Insulation Rating (kVrms): 3; Max Data Rate: 25Mbps; DatasheetVersion: Rev. 0; PackageVersion: 060506-A, 06/2006; PackageReference: R-8; PackageDescription: 8-Pin Standard Small Outline Package, Body 4.9 x 3.9 mm, Pitch 1.27 mm; Supplier 1: Digi-Key; Supplier Part Number 1: ADUM1280BRZ-ND; Max Operating Temp (degreesC): 125; Mounting Technology: Surface Mount; Code_JEDEC: MS-012-AA; ComponentLink1Description: Manufacturer URL; ComponentLink1URL: http://www.analog.com/en/index.html; ComponentLink2Description: Datasheet; ComponentLink2URL: http://www.analog.com/static/imported-files/data_sheets/ADuM1280_1281_1285_1286.pdf; ComponentLink3Description: Package Specification; ComponentLink3URL: http://www.analog.com/static/imported-files/packages/PKG_PDF/SOIC_Narrow%20(R)/R_8.pdf; ComponentLink4Description: URL Link1; ComponentLink4URL: Product URL:http://www.analog.com/en/interface-isolation/digital-isolators/adum1280/products/product.html
footprint ADI-R-8_N (SOIC, 8-Leads, Body 4.9x3.9mm, Pitch 1.27mm, IPC Medium Density)
footprint ADI-R-8_L (SOIC, 8-Leads, Body 4.9x3.9mm, Pitch 1.27mm, IPC High Density)
footprint ADI-R-8_M (SOIC, 8-Leads, Body 4.9x3.9mm, Pitch 1.27mm, IPC Low Density)
pins: 1 VDD1 (power) "Supply Voltage for Isolator Side 1.", 2 VIA (in) "Logic Input A.", 3 VIB (in) "Logic Input B.", 4 GND1 (power) "Ground 1. Ground Reference for Isolator Side 1.", 5 GND2 (power) "Ground 2. Ground Reference for Isolator Side 2.", 6 VOB (out) "Logic Output B.", 7 VOA (out) "Logic Output A.", 8 VDD2 (power) "Supply Voltage for Isolator Side 2."

## ADUM1280BRZ-RL7
designator U?
Dual Channel Default High Digital Isolator, 3 KV rms Insulation Rating, 25 Mbps Data Rate, 35 ns Delay, Industrial, 8-pin SOIC (R-8), Reel; Manufacturer: Analog Devices; PartNumber: ADUM1280BRZ-RL7; Insulation Rating (kVrms): 3; Max Data Rate: 25Mbps; DatasheetVersion: Rev. 0; PackageVersion: 060506-A, 06/2006; PackageReference: R-8; PackageDescription: 8-Pin Standard Small Outline Package, Body 4.9 x 3.9 mm, Pitch 1.27 mm; Supplier 1: Digi-Key; Supplier Part Number 1: ADUM1280BRZ-RL7-ND; Max Operating Temp (degreesC): 125; Mounting Technology: Surface Mount; Code_JEDEC: MS-012-AA; ComponentLink1Description: Manufacturer URL; ComponentLink1URL: http://www.analog.com/en/index.html; ComponentLink2Description: Datasheet; ComponentLink2URL: http://www.analog.com/static/imported-files/data_sheets/ADuM1280_1281_1285_1286.pdf; ComponentLink3Description: Package Specification; ComponentLink3URL: http://www.analog.com/static/imported-files/packages/PKG_PDF/SOIC_Narrow%20(R)/R_8.pdf; ComponentLink4Description: URL Link1; ComponentLink4URL: Product URL:http://www.analog.com/en/interface-isolation/digital-isolators/adum1280/products/product.html
footprint ADI-R-8_N (SOIC, 8-Leads, Body 4.9x3.9mm, Pitch 1.27mm, IPC Medium Density)
footprint ADI-R-8_L (SOIC, 8-Leads, Body 4.9x3.9mm, Pitch 1.27mm, IPC High Density)
footprint ADI-R-8_M (SOIC, 8-Leads, Body 4.9x3.9mm, Pitch 1.27mm, IPC Low Density)
pins: 1 VDD1 (power) "Supply Voltage for Isolator Side 1.", 2 VIA (in) "Logic Input A.", 3 VIB (in) "Logic Input B.", 4 GND1 (power) "Ground 1. Ground Reference for Isolator Side 1.", 5 GND2 (power) "Ground 2. Ground Reference for Isolator Side 2.", 6 VOB (out) "Logic Output B.", 7 VOA (out) "Logic Output A.", 8 VDD2 (power) "Supply Voltage for Isolator Side 2."

## ADUM1280CRZ
designator U?
Dual Channel Default High Digital Isolator, 3 KV rms Insulation Rating, 100 Mbps Data Rate, 24 ns Delay, Industrial, 8-pin SOIC (R-8), Tube; Manufacturer: Analog Devices; PartNumber: ADUM1280CRZ; Insulation Rating (kVrms): 3; DatasheetVersion: Rev. 0; PackageVersion: 060506-A, 06/2006; PackageReference: R-8; PackageDescription: 8-Pin Standard Small Outline Package, Body 4.9 x 3.9 mm, Pitch 1.27 mm; Supplier 1: Digi-Key; Supplier Part Number 1: ADUM1280CRZ-ND; Max Data Rate: 100Mbps; Max Operating Temp (degreesC): 125; Mounting Technology: Surface Mount; Code_JEDEC: MS-012-AA; ComponentLink1Description: Manufacturer URL; ComponentLink1URL: http://www.analog.com/en/index.html; ComponentLink2Description: Datasheet; ComponentLink2URL: http://www.analog.com/static/imported-files/data_sheets/ADuM1280_1281_1285_1286.pdf; ComponentLink3Description: Package Specification; ComponentLink3URL: http://www.analog.com/static/imported-files/packages/PKG_PDF/SOIC_Narrow%20(R)/R_8.pdf; ComponentLink4Description: URL Link1; ComponentLink4URL: Product URL:http://www.analog.com/en/interface-isolation/digital-isolators/adum1280/products/product.html
footprint ADI-R-8_N (SOIC, 8-Leads, Body 4.9x3.9mm, Pitch 1.27mm, IPC Medium Density)
footprint ADI-R-8_L (SOIC, 8-Leads, Body 4.9x3.9mm, Pitch 1.27mm, IPC High Density)
footprint ADI-R-8_M (SOIC, 8-Leads, Body 4.9x3.9mm, Pitch 1.27mm, IPC Low Density)
pins: 1 VDD1 (power) "Supply Voltage for Isolator Side 1.", 2 VIA (in) "Logic Input A.", 3 VIB (in) "Logic Input B.", 4 GND1 (power) "Ground 1. Ground Reference for Isolator Side 1.", 5 GND2 (power) "Ground 2. Ground Reference for Isolator Side 2.", 6 VOB (out) "Logic Output B.", 7 VOA (out) "Logic Output A.", 8 VDD2 (power) "Supply Voltage for Isolator Side 2."